# Altium schematic symbol library ATSAME70Q21B-AN.Schlib: 1 symbol
Pins are listed as number, name and electrical type; pins without a type are passive.

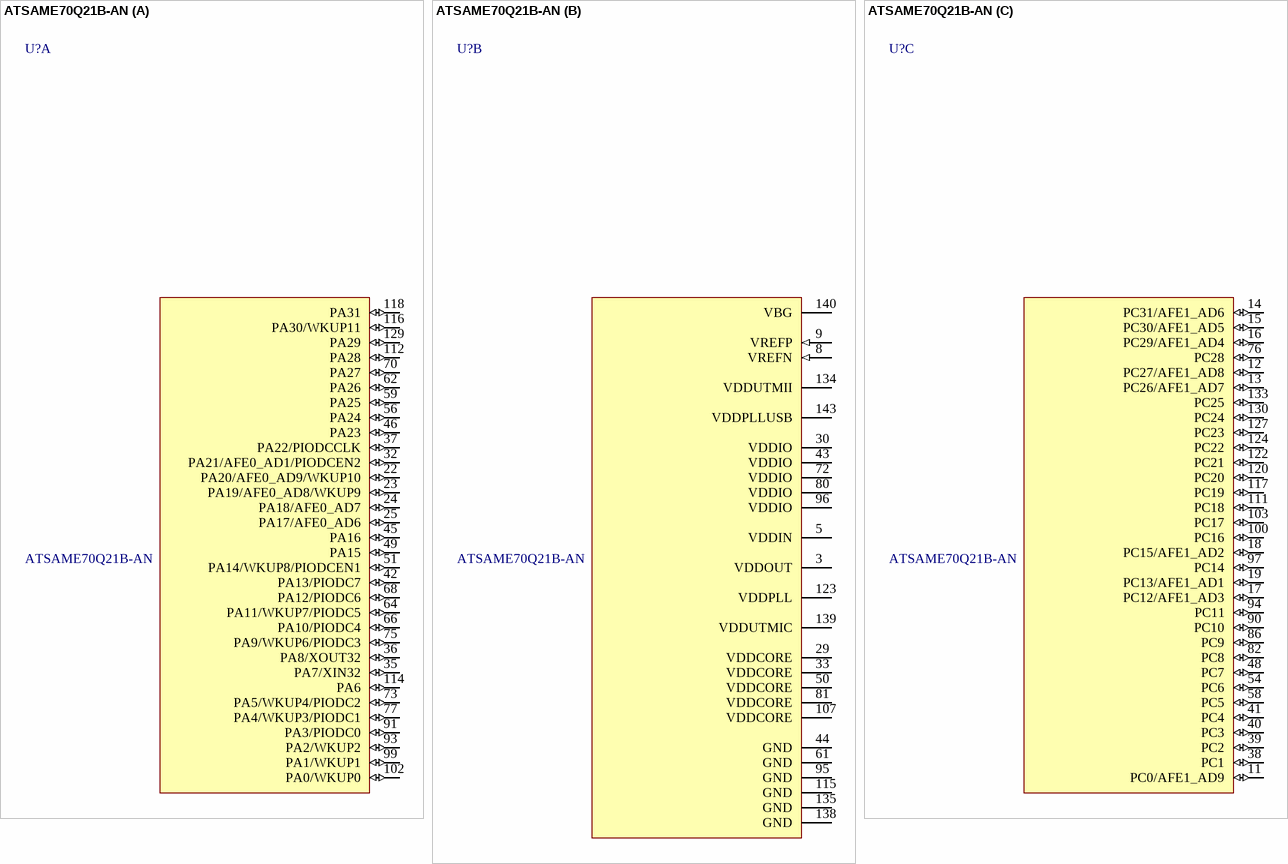
[diagram p0: symbol ATSAME70Q21B-AN]

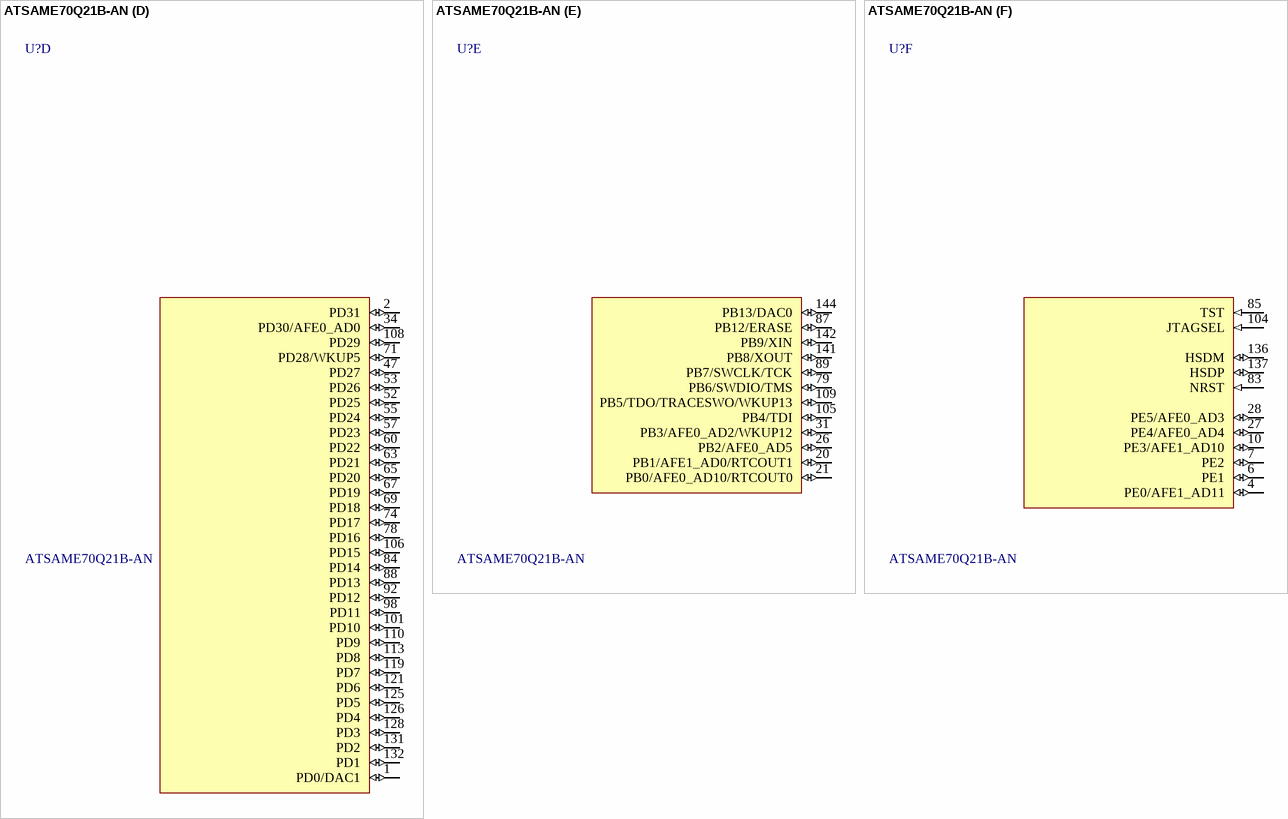
[diagram p1: symbol ATSAME70Q21B-AN]

## ATSAME70Q21B-AN
designator U?
IC MCU 32BIT 2MB FLASH 144LQFP
part A pins: 22 PA20/AFE0_AD9/WKUP10 (io), 23 PA19/AFE0_AD8/WKUP9 (io), 24 PA18/AFE0_AD7 (io), 25 PA17/AFE0_AD6 (io), 32 PA21/AFE0_AD1/PIODCEN2 (io), 35 PA7/XIN32 (io), 36 PA8/XOUT32 (io), 37 PA22/PIODCCLK (io), 42 PA13/PIODC7 (io), 45 PA16 (io), 46 PA23 (io), 49 PA15 (io), 51 PA14/WKUP8/PIODCEN1 (io), 56 PA24 (io), 59 PA25 (io), 62 PA26 (io), 64 PA11/WKUP7/PIODC5 (io), 66 PA10/PIODC4 (io), 68 PA12/PIODC6 (io), 70 PA27 (io), 73 PA5/WKUP4/PIODC2 (io), 75 PA9/WKUP6/PIODC3 (io), 77 PA4/WKUP3/PIODC1 (io), 91 PA3/PIODC0 (io), 93 PA2/WKUP2 (io), 99 PA1/WKUP1 (io), 102 PA0/WKUP0 (io), 112 PA28 (io), 114 PA6 (io), 116 PA30/WKUP11 (io), 118 PA31 (io), 129 PA29 (io)
part B pins: 3 VDDOUT (power), 5 VDDIN (power), 8 VREFN (in), 9 VREFP (in), 29 VDDCORE (power), 30 VDDIO (power), 33 VDDCORE (power), 43 VDDIO (power), 44 GND (power), 50 VDDCORE (power), 61 GND (power), 72 VDDIO (power), 80 VDDIO (power), 81 VDDCORE (power), 95 GND (power), 96 VDDIO (power), 107 VDDCORE (power), 115 GND (power), 123 VDDPLL (power), 134 VDDUTMII (power), 135 GND (power), 138 GND (power), 139 VDDUTMIC (power), 140 VBG, 143 VDDPLLUSB (power)
part C pins: 11 PC0/AFE1_AD9 (io), 12 PC27/AFE1_AD8 (io), 13 PC26/AFE1_AD7 (io), 14 PC31/AFE1_AD6 (io), 15 PC30/AFE1_AD5 (io), 16 PC29/AFE1_AD4 (io), 17 PC12/AFE1_AD3 (io), 18 PC15/AFE1_AD2 (io), 19 PC13/AFE1_AD1 (io), 38 PC1 (io), 39 PC2 (io), 40 PC3 (io), 41 PC4 (io), 48 PC7 (io), 54 PC6 (io), 58 PC5 (io), 76 PC28 (io), 82 PC8 (io), 86 PC9 (io), 90 PC10 (io), 94 PC11 (io), 97 PC14 (io), 100 PC16 (io), 103 PC17 (io), 111 PC18 (io), 117 PC19 (io), 120 PC20 (io), 122 PC21 (io), 124 PC22 (io), 127 PC23 (io), 130 PC24 (io), 133 PC25 (io)
part D pins: 1 PD0/DAC1 (io), 2 PD31 (io), 34 PD30/AFE0_AD0 (io), 47 PD27 (io), 52 PD25 (io), 53 PD26 (io), 55 PD24 (io), 57 PD23 (io), 60 PD22 (io), 63 PD21 (io), 65 PD20 (io), 67 PD19 (io), 69 PD18 (io), 71 PD28/WKUP5 (io), 74 PD17 (io), 78 PD16 (io), 84 PD14 (io), 88 PD13 (io), 92 PD12 (io), 98 PD11 (io), 101 PD10 (io), 106 PD15 (io), 108 PD29 (io), 110 PD9 (io), 113 PD8 (io), 119 PD7 (io), 121 PD6 (io), 125 PD5 (io), 126 PD4 (io), 128 PD3 (io), 131 PD2 (io), 132 PD1 (io)
part E pins: 20 PB1/AFE1_AD0/RTCOUT1 (io), 21 PB0/AFE0_AD10/RTCOUT0 (io), 26 PB2/AFE0_AD5 (io), 31 PB3/AFE0_AD2/WKUP12 (io), 79 PB6/SWDIO/TMS (io), 87 PB12/ERASE (io), 89 PB7/SWCLK/TCK (io), 105 PB4/TDI (io), 109 PB5/TDO/TRACESWO/WKUP13 (io), 141 PB8/XOUT (io), 142 PB9/XIN (io), 144 PB13/DAC0 (io)
part F pins: 4 PE0/AFE1_AD11 (io), 6 PE1 (io), 7 PE2 (io), 10 PE3/AFE1_AD10 (io), 27 PE4/AFE0_AD4 (io), 28 PE5/AFE0_AD3 (io), 83 NRST (in), 85 TST (in), 104 JTAGSEL (in), 136 HSDM (io), 137 HSDP (io)